# Altium footprint library Switch_PcbLib.PcbLib: 24 footprints (part 1 of 2)
Each footprint in its own frame and in the unit in brackets; x right, y up, seen from the top. Pads: shape width x height; smd on the part's side, far side on the other; paste and mask are expansions set on the pad; w line width, h text height; cw(c..) or ccw(c..) is an arc to the next point about the centre after c.
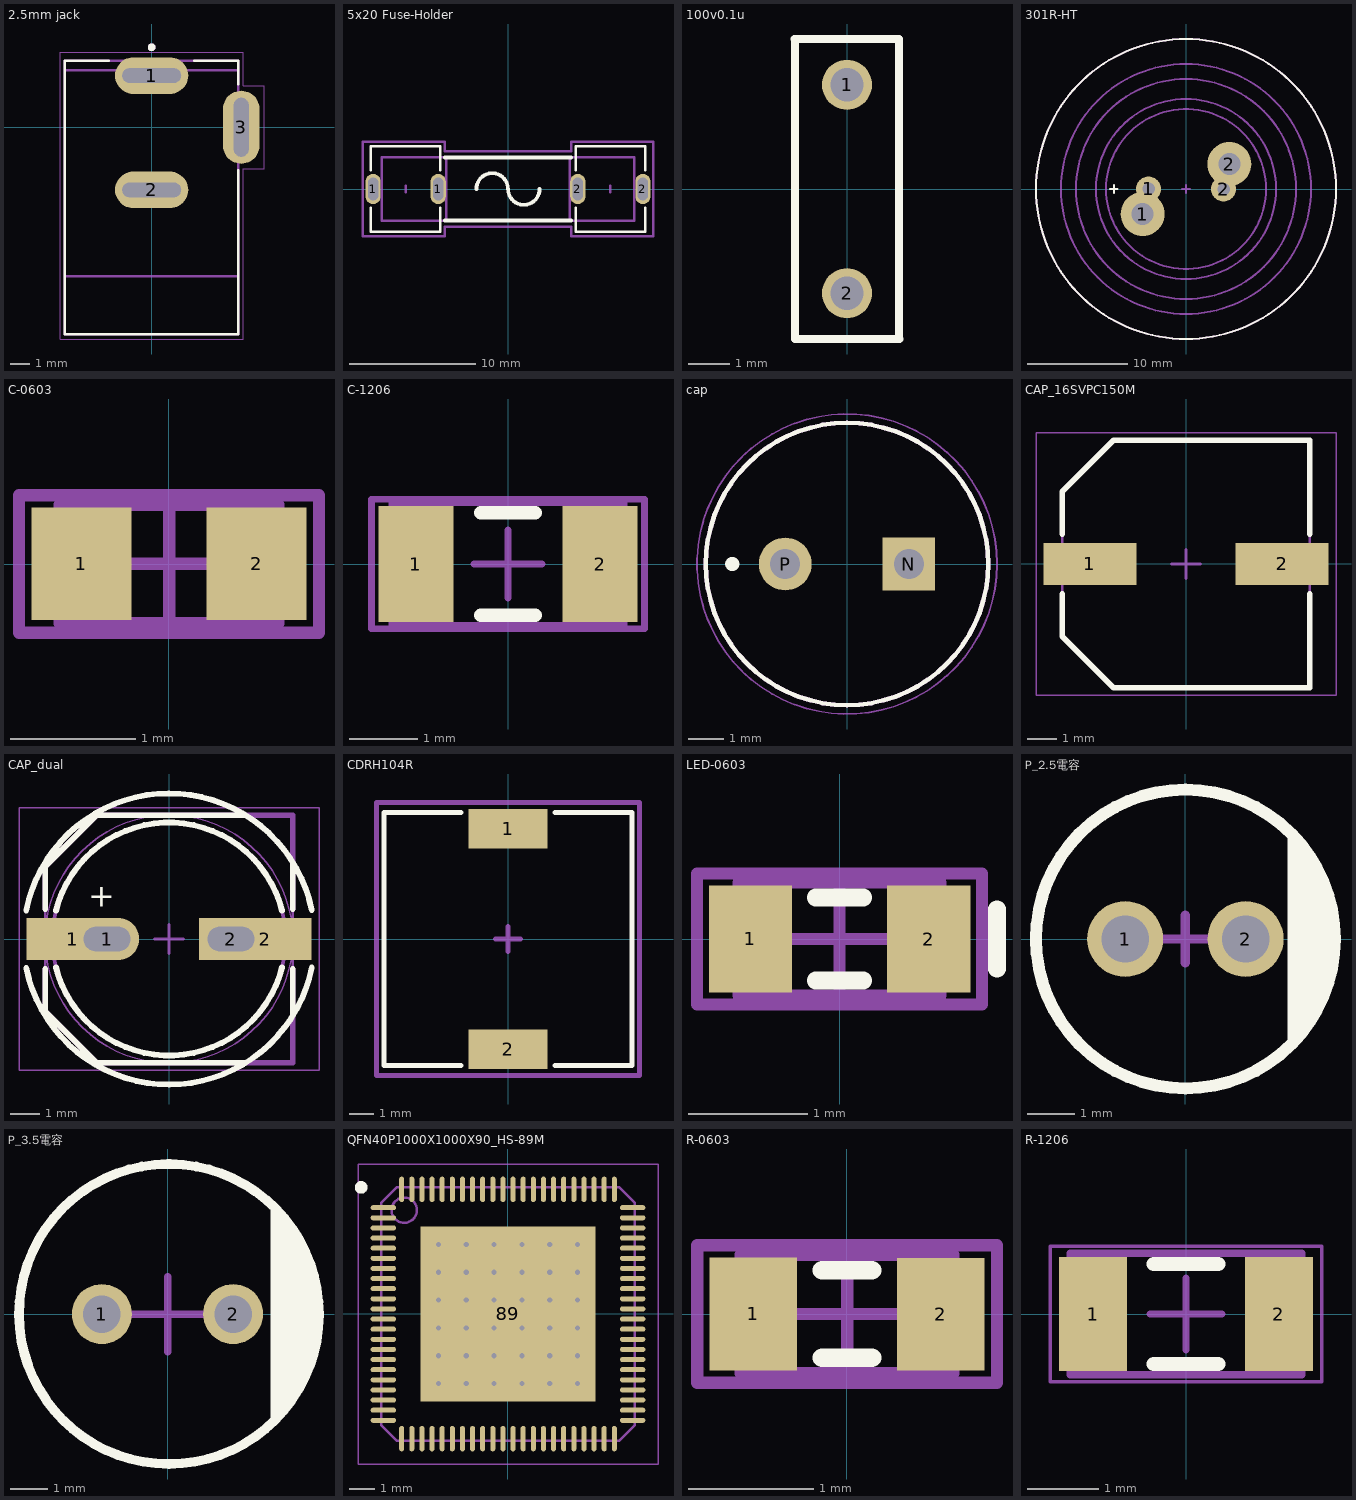
[diagram p0: the footprints below, top view; thin cyan lines are the x and y axes]

## 2.5mm jack [mm]
pads (3):
  oval 3.8x1.9 hole 0.76 slot 3.05 at 0 deg: 1(0,2.68) 2(0,-3.25)
  oval 1.9x3.8 hole 0.76 slot 3.05 at 90 deg: 3(4.65,0)
Top Overlay:
  circle w0.2: c0,4.15 r0.1
  lines w0.127: -2.22,3.45 -4.5,3.45 -4.5,-10.74 4.5,-10.74 4.5,-2.22 ; 2.22,3.45 4.5,3.45 4.5,2.22
Mechanical 13:
  circle w0.2: c0,4.15 r0.1
  lines w0.127: -4.5,-7.74 4.5,-7.74 ; -4.5,-7.74 -4.5,-10.74 4.5,-10.74 4.5,-7.74 ; -4.5,-7.74 -4.5,2.96 ; -4.5,2.96 4.5,2.96 ; -4.5,2.96 -4.5,3.45 4.5,3.45 4.5,2.96 ; 4.5,-7.74 4.5,2.96
Mechanical 15:
  lines w0.05: -4.75,-10.99 4.75,-10.99 4.75,-2.15 5.85,-2.15 5.85,2.15 4.75,2.15 4.75,3.9 -4.75,3.9 -4.75,-10.99
3D body "DC_JACK_10A.step": height 11, standoff -3.5, extent -4.5,-10.85 5.1,3.25

## 5x20 Fuse-Holder [mm]
pads (4):
  oval 1.2x2.4 hole 0.8 slot 1.8 at 90 deg: 1(-10.675,0) 1(-5.525,0) 2(5.525,0) 2(10.675,0)
Top Overlay:
  lines w0.2: -10.85,-1.5 -10.85,-3.4 -5.35,-3.4 -5.35,-1.5 ; -10.85,1.5 -10.85,3.4 -5.35,3.4 -5.35,1.5 ; 5.35,-1.5 5.35,-3.4 10.85,-3.4 10.85,-1.5 ; 5.35,1.5 5.35,3.4 10.85,3.4 10.85,1.5
  lines w0.3: -5,-2.5 5,-2.5 ; -5,2.5 5,2.5 ; -2.5,0 cw(c-1.25,0) 0,0 ccw(c1.25,0) 2.5,0
Mechanical 15:
  lines w0.2: -8.1,-0.25 -8.1,0.25 ; -4.9,-2.5 -4.9,2.5 ; 4.9,-2.5 4.9,2.5 ; 8.1,-0.25 8.1,0.25 ; -11.5,-3.75 -5,-3.75 -5,-3 5,-3 5,-3.75 11.5,-3.75 11.5,3.75 5,3.75 5,3 -5,3 -5,3.75 -11.5,3.75 -11.5,-3.75 ; -10,-2.5 -10,2.5 10,2.5 10,-2.5 -10,-2.5
3D body "5x20Fuse.step": height 8.85, standoff 3.75, extent -9.85,-2.55 9.85,2.55
3D body "Fuse Hoder.step": height 9.6, standoff -3.3, extent 5.052,-3.095 11.148,3.095
3D body "Fuse Hoder.step": height 9.6, standoff -3.3, extent -11.148,-3.095 -5.052,3.095

## 100v0.1u [mm]
pads (2):
  round 1.2 hole 0.8: 1(0,2.5) 2(0,-2.5)
Top Overlay:
  lines w0.2: -1.258,3.6 1.25,3.6 1.25,-3.6 ; -1.25,3.6 -1.25,-3.6 1.258,-3.6

## 301R-HT [mm] "CDE Capacitor"
pads (4):
  round 4.4 hole 2.2: 1(-4.33,-2.5) 2(4.33,2.5)
  round 2.5 hole 1.25: 1(-3.75,0) 2(3.75,0)
Top Overlay:
  circle w0.2: c0,0 r15
  lines w0.2: -7.575,0 -6.825,0 ; -7.2,-0.375 -7.2,0.375
Mechanical 15:
  circle w0.2: c0,0 r15
  circle w0.2: c0,0 r12.5
  circle w0.2: c0,0 r11
  circle w0.2: c0,0 r8
  circle w0.2: c0,0 r9
  lines w0.2: -0.375,0 0.375,0 ; 0,-0.375 0,0.375
3D body "30mm cap.stp": height 47.8, standoff -5.99, extent -18.984,-18.984 18.984,18.984

## C-0603 [mm] "Chip Capacitor, Body 1.6x0.8mm, IPC High Density"
height 1.3
pads (2):
  rect 0.8x0.9 smd: 1(-0.7,0) 2(0.7,0)
Mechanical 13:
  lines w0.1: -0.875,-0.475 0.875,-0.475 0.875,0.475 -0.875,0.475 -0.875,-0.475
Mechanical 15:
  lines w0.1: -0.475,0 0.475,0 ; 0,-0.475 0,0.475 ; -1.2,-0.55 1.2,-0.55 1.2,0.55 -1.2,0.55 -1.2,-0.55
3D body "0603 SMD Capacitor.STEP": height 0.3, standoff 0, extent -0.8,-0.4 0.8,0.4

## C-1206 [mm] "Chip Capacitor, Body 3.2x1.6mm, IPC High Density"
height 1.3
pads (2):
  rect 1.1x1.7 smd: 1(-1.35,0) 2(1.35,0)
Top Overlay:
  lines w0.2: -0.4,-0.75 0.4,-0.75 ; -0.4,0.75 0.4,0.75
Mechanical 13:
  lines w0.1: -1.7,-0.9 1.7,-0.9 1.7,0.9 -1.7,0.9 -1.7,-0.9
Mechanical 15:
  lines w0.1: -0.5,0 0.5,0 ; 0,-0.5 0,0.5 ; -2,-0.95 2,-0.95 2,0.95 -2,0.95 -2,-0.95
3D body "1206 SMD Capacitor.STEP": height 1, standoff 0, extent -1.6,-0.8 1.6,0.8

## cap [mm]
pads (2):
  rect 1.5x1.5 hole 0.85: N(1.75,0)
  round 1.5 hole 0.85: P(-1.75,0)
Top Overlay:
  circle w0.127: c0,0 r4
  circle w0.2: c-3.25,0 r0.1
Mechanical 13:
  circle w0.127: c0,0 r4
Mechanical 15:
  circle w0.05: c0,0 r4.25
3D body "step_temp.STEP": height 11.5, standoff -17, extent -4,-4 4,4

## CAP_16SVPC150M [mm] "16v150u"
pads (2):
  rect 3.2x1.45 smd: 1(-3.3,0) 2(3.3,0)
Top Overlay:
  lines w0.2: -4.25,-1.025 -4.25,-2.488 -2.488,-4.25 4.25,-4.25 4.25,-1.025 ; -4.25,1.025 -4.25,2.488 -2.488,4.25 4.25,4.25 4.25,1.025
Mechanical 13:
  lines w0.1: -4.25,-2.488 -4.25,2.488 -2.488,4.25 4.25,4.25 4.25,-4.25 -2.488,-4.25 -4.25,-2.488
Mechanical 15:
  lines w0.05: -5.15,-4.5 5.15,-4.5 5.15,4.5 -5.15,4.5 -5.15,-4.5
  lines w0.1: -0.5,0 0.5,0 ; 0,-0.5 0,0.5
3D body "16SVPC150M.STEP": height 6.9, standoff 0, extent -4.5,-4.15 4.5,4.15

## CAP_dual [mm]
pads (4):
  rect 3.2x1.45 smd: 1(-3.3,0)
  oval 2.2x1.45 hole 0.85 slot 1.6 at 0 deg: 1(-2.125,0)
  rect 2.2x1.45 hole 0.85 slot 1.6 at 0 deg: 2(2.125,0)
  rect 3.2x1.45 smd paste+0: 2(3.3,0)
Top Overlay:
  lines w0.2: -4.903,0.981 cw(c0,0) 4.899,1 ; -4.899,-1 ccw(c0,0) 4.903,-0.981 ; -4.25,-1.025 -4.25,-2.488 -2.488,-4.25 2.634,-4.25 ; -4.25,1.025 -4.25,2.488 ; -3.881,-0.97 ccw(c0,0) 3.881,-0.97 ; -3.881,0.97 cw(c0,0) 3.881,0.97 ; 2.634,4.25 -2.488,4.25 -4.25,2.488 ; 4.25,-2.634 4.25,-1.025 ; 4.25,1.025 4.25,2.634 ; -4.25,2.488 -4.25,2.488
  text "+" at -2.767,1.1 h0.8
Mechanical 13:
  circle w0.127: c0,0 r4
  lines w0.1: -4.25,-2.488 -4.25,2.488 -2.488,4.25 4.25,4.25 4.25,-4.25 -2.488,-4.25 -4.25,-2.488
Mechanical 15:
  circle w0.05: c0,0 r4.25
  lines w0.05: -5.15,-4.5 5.15,-4.5 5.15,4.5 -5.15,4.5 -5.15,-4.5
  lines w0.1: -0.5,0 0.5,0 ; 0,-0.5 0,0.5
  lines w0.2: -4.25,-1.025 -4.25,-2.488 -2.488,-4.25 4.25,-4.25 4.25,-1.025 ; -4.25,1.025 -4.25,2.488 -2.488,4.25 4.25,4.25 4.25,1.025
3D body "16SVPC150M.STEP": height 6.9, standoff 0, extent -4.5,-4.15 4.5,4.15

## CDRH104R [mm]
pads (2):
  rect 3.2x1.6 smd: 1(0,4.45) 2(0,-4.45)
Top Overlay:
  lines w0.2: -1.9,-5.1 -5,-5.1 -5,5.1 -1.9,5.1 ; 1.9,-5.1 5,-5.1 5,5.1 1.9,5.1
Mechanical 15:
  lines w0.2: -0.5,0 0.5,0 ; 0,-0.5 0,0.5 ; -5.3,-5.5 -5.3,5.5 -2,5.5 5.3,5.5 5.3,-5.5 -5.3,-5.5
3D body "cdrh104r.STEP": height 4, standoff 0, extent -5.15,-5.25 5.15,5.25

## LED-0603 [mm] "LED, Body 1.6x0.8mm, IPC High Density"
height 0.9
pads (2):
  rect 0.7x0.9 smd: 1(-0.75,0) 2(0.75,0)
Top Overlay:
  lines w0.15: -0.2,-0.35 0.2,-0.35 ; -0.2,0.35 0.2,0.35 ; 1.325,-0.25 1.325,0.25
Mechanical 13:
  lines w0.1: -0.85,-0.475 -0.85,0.475 0.85,0.475 0.85,-0.475 -0.85,-0.475
Mechanical 15:
  lines w0.1: -0.475,0 0.475,0 ; 0,-0.475 0,0.475 ; -1.2,-0.55 -1.2,0.55 1.2,0.55 1.2,-0.55 -1.2,-0.55
3D body "User Library-LED_0603_R.STEP": height 0.6, standoff 0, extent -0.8,-0.4 0.8,0.4

## P_2.5電容 [mm]
pads (2):
  round 1.6 hole 1: 1(-1.27,0) 2(1.27,0)
Top Overlay:
  circle w0.254: c0,0 r3.15
  region: 2.159,2.286 2.319,2.142 2.595,1.812 2.822,1.447 2.997,1.054 3.115,0.641 3.175,0.215 3.175,-0.215 3.115,-0.641 2.997,-1.054 2.822,-1.447 2.595,-1.812 2.319,-2.142 2.159,-2.286
Mechanical 5:
  circle w0.4: c1.27,0 r0.2
  circle w0.4: c-1.27,0 r0.2
Mechanical 15:
  lines w0.2: -0.5,0 0.5,0 ; 0,-0.5 0,0.5

## P_3.5電容 [mm]
pads (2):
  round 1.6 hole 1: 1(-1.75,0) 2(1.75,0)
Top Overlay:
  region: 2.75,-3 2.941,-2.8 3.268,-2.355 3.536,-1.872 3.741,-1.359 3.88,-0.824 3.95,-0.276 3.95,0.276 3.88,0.824 3.741,1.359 3.536,1.872 3.268,2.355 2.941,2.8 2.75,3
  lines w0.254: 0.003,4 ccw(c0.038,0.001) 0.074,4
Mechanical 15:
  lines w0.2: -1,0 1,0 ; 0,-1 0,1

## QFN40P1000X1000X90_HS-89M [mm] "QFN, 88-Leads, Body 10.00x10.00mm, Pitch 0.40mm, Thermal Pad 6.90x6.90mm, IPC Low Density"
height 0.9
pads (89):
  oval 1x0.2 smd: 1(-4.925,4.2) 2(-4.925,3.8) 3(-4.925,3.4) 4(-4.925,3) 5(-4.925,2.6) 6(-4.925,2.2) 7(-4.925,1.8) 8(-4.925,1.4) 9(-4.925,1) 10(-4.925,0.6) 11(-4.925,0.2) 12(-4.925,-0.2) 13(-4.925,-0.6) 14(-4.925,-1) 15(-4.925,-1.4) 16(-4.925,-1.8) 17(-4.925,-2.2) 18(-4.925,-2.6) 19(-4.925,-3) 20(-4.925,-3.4) 21(-4.925,-3.8) 22(-4.925,-4.2) 45(4.925,-4.2) 46(4.925,-3.8) 47(4.925,-3.4) 48(4.925,-3) 49(4.925,-2.6) 50(4.925,-2.2) 51(4.925,-1.8) 52(4.925,-1.4) 53(4.925,-1) 54(4.925,-0.6) 55(4.925,-0.2) 56(4.925,0.2) 57(4.925,0.6) 58(4.925,1) 59(4.925,1.4) 60(4.925,1.8) 61(4.925,2.2) 62(4.925,2.6) 63(4.925,3) 64(4.925,3.4) 65(4.925,3.8) 66(4.925,4.2)
  oval 0.2x1 smd: 23(-4.2,-4.925) 24(-3.8,-4.925) 25(-3.4,-4.925) 26(-3,-4.925) 27(-2.6,-4.925) 28(-2.2,-4.925) 29(-1.8,-4.925) 30(-1.4,-4.925) 31(-1,-4.925) 32(-0.6,-4.925) 33(-0.2,-4.925) 34(0.2,-4.925) 35(0.6,-4.925) 36(1,-4.925) 37(1.4,-4.925) 38(1.8,-4.925) 39(2.2,-4.925) 40(2.6,-4.925) 41(3,-4.925) 42(3.4,-4.925) 43(3.8,-4.925) 44(4.2,-4.925) 67(4.2,4.925) 68(3.8,4.925) 69(3.4,4.925) 70(3,4.925) 71(2.6,4.925) 72(2.2,4.925) 73(1.8,4.925) 74(1.4,4.925) 75(1,4.925) 76(0.6,4.925) 77(0.2,4.925) 78(-0.2,4.925) 79(-0.6,4.925) 80(-1,4.925) 81(-1.4,4.925) 82(-1.8,4.925) 83(-2.2,4.925) 84(-2.6,4.925) 85(-3,4.925) 86(-3.4,4.925) 87(-3.8,4.925) 88(-4.2,4.925)
  rect 6.9x6.9 smd: 89(0,0)
via 2.75,-2.75 diameter 0.5 hole 0.2
via 1.65,-2.75 diameter 0.5 hole 0.2
via 0.55,-2.75 diameter 0.5 hole 0.2
via -0.55,-2.75 diameter 0.5 hole 0.2
via -1.65,-2.75 diameter 0.5 hole 0.2
via -2.75,-2.75 diameter 0.5 hole 0.2
via 2.75,-1.65 diameter 0.5 hole 0.2
via 1.65,-1.65 diameter 0.5 hole 0.2
via 0.55,-1.65 diameter 0.5 hole 0.2
via -0.55,-1.65 diameter 0.5 hole 0.2
via -1.65,-1.65 diameter 0.5 hole 0.2
via -2.75,-1.65 diameter 0.5 hole 0.2
via 2.75,-0.55 diameter 0.5 hole 0.2
via 1.65,-0.55 diameter 0.5 hole 0.2
via 0.55,-0.55 diameter 0.5 hole 0.2
via -0.55,-0.55 diameter 0.5 hole 0.2
via -1.65,-0.55 diameter 0.5 hole 0.2
via -2.75,-0.55 diameter 0.5 hole 0.2
via 2.75,0.55 diameter 0.5 hole 0.2
via 1.65,0.55 diameter 0.5 hole 0.2
via 0.55,0.55 diameter 0.5 hole 0.2
via -0.55,0.55 diameter 0.5 hole 0.2
via -1.65,0.55 diameter 0.5 hole 0.2
via -2.75,0.55 diameter 0.5 hole 0.2
via 2.75,1.65 diameter 0.5 hole 0.2
via 1.65,1.65 diameter 0.5 hole 0.2
via 0.55,1.65 diameter 0.5 hole 0.2
via -0.55,1.65 diameter 0.5 hole 0.2
via -1.65,1.65 diameter 0.5 hole 0.2
via -2.75,1.65 diameter 0.5 hole 0.2
via 2.75,2.75 diameter 0.5 hole 0.2
via 1.65,2.75 diameter 0.5 hole 0.2
via 0.55,2.75 diameter 0.5 hole 0.2
via -0.55,2.75 diameter 0.5 hole 0.2
via -1.65,2.75 diameter 0.5 hole 0.2
via -2.75,2.75 diameter 0.5 hole 0.2
Top Overlay:
  circle w0.25: c-5.8,5 r0.125
Mechanical 13:
  circle w0.1: c-4.1,4.1 r0.5
  lines w0.1: -5,-4.4 -5,4.4 -4.4,5 4.4,5 5,4.4 5,-4.4 4.4,-5 -4.4,-5 -5,-4.4
Mechanical 15:
  lines w0.05: -5.925,-5.925 5.925,-5.925 5.925,5.925 -5.925,5.925 -5.925,-5.925
  lines w0.1: -0.5,0 0.5,0 ; 0,-0.5 0,0.5
3D body "QFN88.step": height 0.85, standoff -0.02, extent -5.01,-5.01 5.01,5.01

## R-0603 [mm] "Chip Resistor, Body 1.6x0.8mm, IPC High Density"
height 0.9
pads (2):
  rect 0.7x0.9 smd: 1(-0.75,0) 2(0.75,0)
Top Overlay:
  lines w0.15: -0.2,-0.35 0.2,-0.35 ; -0.2,0.35 0.2,0.35
Mechanical 13:
  lines w0.1: -0.85,-0.475 0.85,-0.475 0.85,0.475 -0.85,0.475 -0.85,-0.475
Mechanical 15:
  lines w0.1: -0.475,0 0.475,0 ; 0,-0.475 0,0.475 ; -1.2,-0.55 1.2,-0.55 1.2,0.55 -1.2,0.55 -1.2,-0.55
3D body "RES0603.STEP": height 0.45, standoff 0, extent -0.8,-0.41 0.8,0.41

## R-1206 [mm] "Chip Resistor, 2-Leads, Body 3.10x1.58mm, IPC High Density"
height 0.65
pads (2):
  rect 0.95x1.6 smd: 1(-1.3,0) 2(1.3,0)
Top Overlay:
  lines w0.2: -0.45,-0.7 0.45,-0.7 ; -0.45,0.7 0.45,0.7
Mechanical 13:
  lines w0.1: -1.625,-0.85 -1.625,0.85 1.625,0.85 1.625,-0.85 -1.625,-0.85
Mechanical 15:
  lines w0.05: -1.9,-0.95 -1.9,0.95 1.9,0.95 1.9,-0.95 -1.9,-0.95
  lines w0.1: -0.5,0 0.5,0 ; 0,-0.5 0,0.5
3D body: height 0.65, standoff 0, extent -1.175,-0.85 1.175,0.85
3D body: height 0.65, standoff 0, extent -1.625,-0.85 -1.175,0.85
3D body: height 0.65, standoff 0, extent 1.175,-0.85 1.625,0.85